# Altium schematic symbol library Pinsockets.SchLib: 12 symbols
Pins are listed as number, name and electrical type; pins without a type are passive.

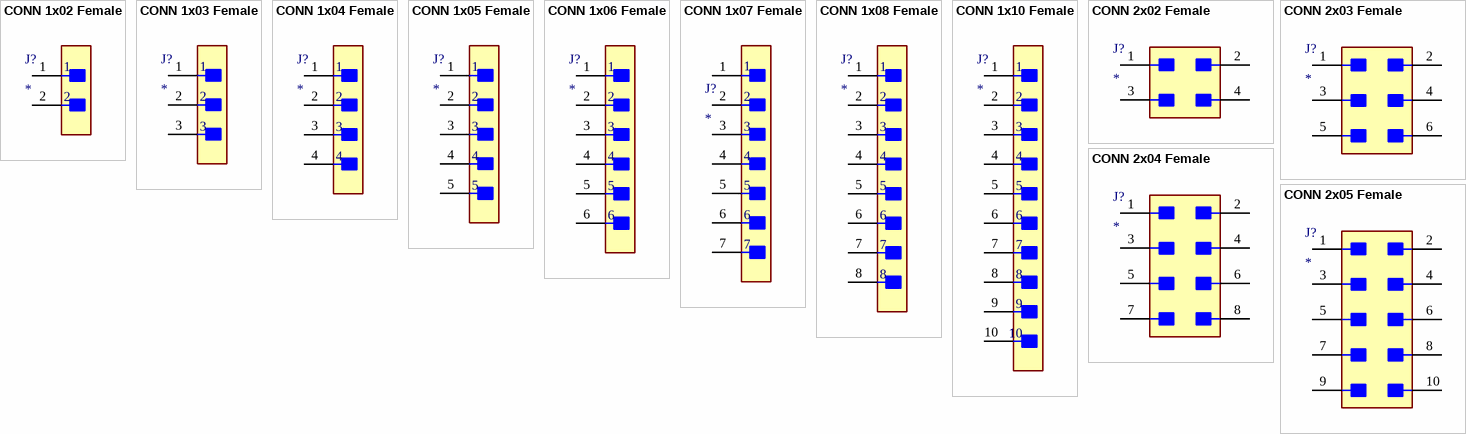
[diagram p0: symbols CONN 1x02 Female to CONN 2x05 Female]

## CONN 1x02 Female
designator J?
CONN RECEPTACLE FEMALE 2POS
footprint CONN 1x02 Female (CONN RECEPTACLE FEMALE 2POS 2.54MM)
pins: 1, 2

## CONN 1x03 Female
designator J?
CONN RECEPTACLE FEMALE 3POS
footprint CONN 1x03 Female (CONN RECEPTACLE FEMALE 3POS 2.54MM)
pins: 1, 2, 3

## CONN 1x04 Female
designator J?
CONN RECEPTACLE FEMALE 4POS
footprint CONN 1x04 Female (CONN RECEPTACLE FEMALE 4POS 2.54MM)
pins: 1, 2, 3, 4

## CONN 1x05 Female
designator J?
CONN RECEPTACLE FEMALE 5POS
footprint CONN 1x05 Female (CONN RECEPTACLE FEMALE 5POS 2.54MM)
pins: 1, 2, 3, 4, 5

## CONN 1x06 Female
designator J?
CONN RECEPTACLE FEMALE 6POS
footprint CONN 1x06 Female (CONN RECEPTACLE FEMALE 6POS 2.54MM)
pins: 1, 2, 3, 4, 5, 6

## CONN 1x07 Female
designator J?
CONN RECEPTACLE FEMALE 7POS
footprint CONN 1x07 Female (CONN RECEPTACLE FEMALE 7POS 2.54MM)
pins: 1, 2, 3, 4, 5, 6, 7

## CONN 1x08 Female
designator J?
CONN RECEPTACLE FEMALE 8POS
footprint CONN 1x08 Female (CONN RECEPTACLE FEMALE 8POS 2.54MM)
pins: 1, 2, 3, 4, 5, 6, 7, 8

## CONN 1x10 Female
designator J?
CONN RECEPTACLE FEMALE 10POS
footprint CONN 1x10 Female (CONN RECEPTACLE FEMALE 10POS 2.54MM)
pins: 1, 2, 3, 4, 5, 6, 7, 8, 9, 10

## CONN 2x02 Female
designator J?
CONN RECEPTACLE FEMALE 4POS
footprint CONN 2x02 Female (CONN RECEPTACLE FEMALE 4POS 2.54MM)
pins: 1, 2, 3, 4

## CONN 2x03 Female
designator J?
CONN RECEPTACLE FEMALE 6POS
footprint CONN 2x03 Female (CONN RECEPTACLE FEMALE 6POS 2.54MM)
pins: 1, 2, 3, 4, 5, 6

## CONN 2x04 Female
designator J?
CONN RECEPTACLE FEMALE 8POS
footprint CONN 2x04 Female (CONN RECEPTACLE FEMALE 8POS 2.54MM)
pins: 1, 2, 3, 4, 5, 6, 7, 8

## CONN 2x05 Female
designator J?
CONN RECEPTACLE FEMALE 10POS
footprint CONN 2x05 Female (CONN RECEPTACLE FEMALE 10POS 2.54MM)
pins: 1, 2, 3, 4, 5, 6, 7, 8, 9, 10